# EAGLE library part CXA2075 (library Sony CXA2075)
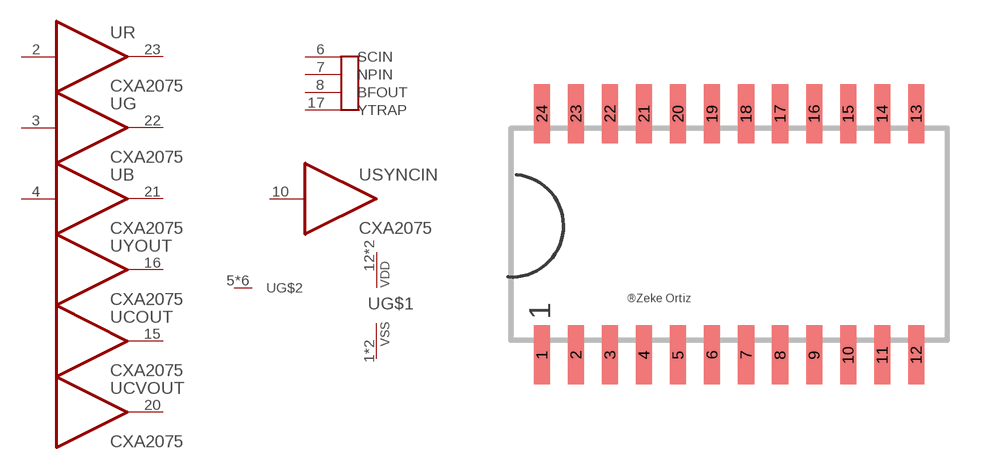
[diagram p0: symbol with the pads of SOP24; footprint SOP24]

Designator prefix -; gates R=BUFFER G=BUFFER B=BUFFER G$7=CXA2075 YOUT=BUFFERNOIN COUT=BUFFERNOIN CVOUT=BUFFERNOIN SYNCIN=BUFFERNOOUT G$1=PWRN G$2=NC

## CXA2075  [SOP24]
1  G$1:VSS  pwr
2  R:I
3  G:I
4  B:I
5  G$2:NC  nc
6  G$7:SCIN  in
7  G$7:NPIN  in
8  G$7:BFOUT  out
9  G$2:NC  nc
10  SYNCIN:I
11  G$2:NC  nc
12  G$1:VDD  pwr
13  G$2:NC  nc
14  G$2:NC  nc
15  COUT:O  out
16  YOUT:O  out
17  G$7:YTRAP
18  G$2:NC  nc
19  G$1:VDD  pwr
20  CVOUT:O  out
21  B:O  out
22  G:O  out
23  R:O  out
24  G$1:VSS  pwr

## Footprint SOP24 (pad centres in mm)
SMALL OUTLINE PACKAGE
smd 0.6 x 2.2: 1 -6.985,-4.5; 2 -5.715,-4.5; 3 -4.445,-4.5; 4 -3.175,-4.5; 5 -1.905,-4.5; 6 -0.635,-4.5; 7 0.635,-4.5; 8 1.905,-4.5; 9 3.175,-4.5; 10 4.445,-4.5; 11 5.715,-4.5; 12 6.985,-4.5; 13 6.985,4.5; 14 5.715,4.5; 15 4.445,4.5; 16 3.175,4.5; 17 1.905,4.5; 18 0.635,4.5; 19 -0.635,4.5; 20 -1.905,4.5; 21 -3.175,4.5; 22 -4.445,4.5; 23 -5.715,4.5; 24 -6.985,4.5